# Altium schematic symbol library DART-SD410.SchLib: 2 symbols
Pins are listed as number, name and electrical type; pins without a type are passive.

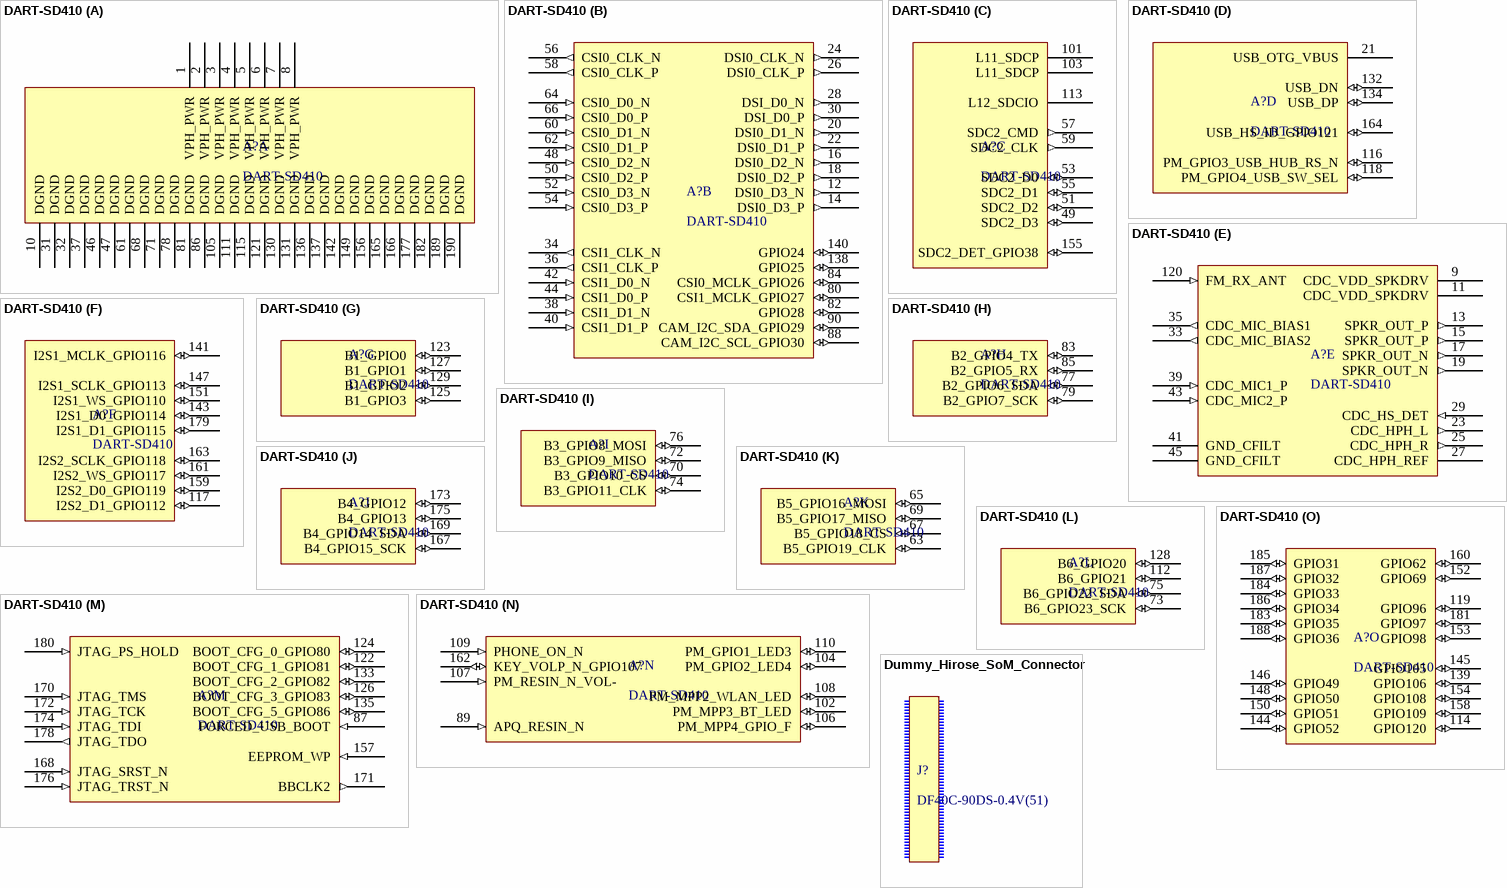
[diagram p0: symbols DART-SD410 to Dummy_Hirose_SoM_Connector]

## DART-SD410
designator A?
Variscite DART-SD410 System on Module
footprint DART-SD410 (Variscite DART-SD410 SoM)
part A pins: 1 VPH_PWR (power), 2 VPH_PWR (power), 3 VPH_PWR (power), 4 VPH_PWR (power), 5 VPH_PWR (power), 6 VPH_PWR (power), 7 VPH_PWR (power), 8 VPH_PWR (power), 10 DGND (power), 31 DGND (power), 32 DGND (power), 37 DGND (power), 46 DGND (power), 47 DGND (power), 61 DGND (power), 68 DGND (power), 71 DGND (power), 78 DGND (power), 81 DGND (power), 86 DGND (power), 105 DGND (power), 111 DGND (power), 115 DGND (power), 121 DGND (power), 130 DGND (power), 131 DGND (power), 136 DGND (power), 137 DGND (power), 142 DGND (power), 149 DGND (power), 156 DGND (power), 165 DGND (power), 166 DGND (power), 177 DGND (power), 182 DGND (power), 189 DGND (power), 190 DGND (power)
part B pins: 12 DSI0_D3_N (out), 14 DSI0_D3_P (out), 16 DSI0_D2_N (out), 18 DSI0_D2_P (out), 20 DSI0_D1_N (out), 22 DSI0_D1_P (out), 24 DSI0_CLK_N (out), 26 DSI0_CLK_P (out), 28 DSI_D0_N (out), 30 DSI_D0_P (out), 34 CSI1_CLK_N (out), 36 CSI1_CLK_P (out), 38 CSI1_D1_N (in), 40 CSI1_D1_P (in), 42 CSI1_D0_N (in), 44 CSI1_D0_P (in), 48 CSI0_D2_N (in), 50 CSI0_D2_P (in), 52 CSI0_D3_N (in), 54 CSI0_D3_P (in), 56 CSI0_CLK_N (out), 58 CSI0_CLK_P (out), 60 CSI0_D1_N (in), 62 CSI0_D1_P (in), 64 CSI0_D0_N (in), 66 CSI0_D0_P (in), 80 CSI1_MCLK_GPIO27 (io), 82 GPIO28 (io), 84 CSI0_MCLK_GPIO26 (io), 88 CAM_I2C_SCL_GPIO30 (io), 90 CAM_I2C_SDA_GPIO29 (io), 138 GPIO25 (io), 140 GPIO24 (io)
part C pins: 49 SDC2_D3 (io), 51 SDC2_D2 (io), 53 SDC2_D0 (io), 55 SDC2_D1 (io), 57 SDC2_CMD (out), 59 SDC2_CLK (out), 101 L11_SDCP (power), 103 L11_SDCP (power), 113 L12_SDCIO (power), 155 SDC2_DET_GPIO38 (io)
part D pins: 21 USB_OTG_VBUS (power), 116 PM_GPIO3_USB_HUB_RS_N (io), 118 PM_GPIO4_USB_SW_SEL (io), 132 USB_DN (io), 134 USB_DP (io), 164 USB_HS_ID_GPIO121 (io)
part E pins: 9 CDC_VDD_SPKDRV (power), 11 CDC_VDD_SPKDRV (power), 13 SPKR_OUT_P (out), 15 SPKR_OUT_P (out), 17 SPKR_OUT_N (out), 19 SPKR_OUT_N (out), 23 CDC_HPH_L (out), 25 CDC_HPH_R (out), 27 CDC_HPH_REF (power), 29 CDC_HS_DET (in), 33 CDC_MIC_BIAS2 (out), 35 CDC_MIC_BIAS1 (out), 39 CDC_MIC1_P (in), 41 GND_CFILT (power), 43 CDC_MIC2_P (in), 45 GND_CFILT (power), 120 FM_RX_ANT (in)
part F pins: 117 I2S2_D1_GPIO112 (io), 141 I2S1_MCLK_GPIO116 (io), 143 I2S1_D0_GPIO114 (io), 147 I2S1_SCLK_GPIO113 (io), 151 I2S1_WS_GPIO110 (io), 159 I2S2_D0_GPIO119 (io), 161 I2S2_WS_GPIO117 (io), 163 I2S2_SCLK_GPIO118 (io), 179 I2S1_D1_GPIO115 (io)
part G pins: 123 B1_GPIO0 (io), 125 B1_GPIO3 (io), 127 B1_GPIO1 (io), 129 B1_GPIO2 (io)
part H pins: 77 B2_GPIO6_SDA (io), 79 B2_GPIO7_SCK (io), 83 B2_GPIO4_TX (io), 85 B2_GPIO5_RX (io)
part I pins: 70 B3_GPIO10_CS (io), 72 B3_GPIO9_MISO (io), 74 B3_GPIO11_CLK (io), 76 B3_GPIO8_MOSI (io)
part J pins: 167 B4_GPIO15_SCK (io), 169 B4_GPIO14_SDA (io), 173 B4_GPIO12 (io), 175 B4_GPIO13 (io)
part K pins: 63 B5_GPIO19_CLK (io), 65 B5_GPIO16_MOSI (io), 67 B5_GPIO18_CS (io), 69 B5_GPIO17_MISO (io)
part L pins: 73 B6_GPIO23_SCK (io), 75 B6_GPIO22_SDA (io), 112 B6_GPIO21 (io), 128 B6_GPIO20 (io)
part M pins: 87 FORCED_USB_BOOT (in), 122 BOOT_CFG_1_GPIO81 (io), 124 BOOT_CFG_0_GPIO80 (io), 126 BOOT_CFG_3_GPIO83 (io), 133 BOOT_CFG_2_GPIO82 (io), 135 BOOT_CFG_5_GPIO86 (io), 157 EEPROM_WP (in), 168 JTAG_SRST_N (in), 170 JTAG_TMS (in), 171 BBCLK2 (out), 172 JTAG_TCK (in), 174 JTAG_TDI (in), 176 JTAG_TRST_N (in), 178 JTAG_TDO (out), 180 JTAG_PS_HOLD (in)
part N pins: 89 APQ_RESIN_N (in), 102 PM_MPP3_BT_LED (io), 104 PM_GPIO2_LED4 (io), 106 PM_MPP4_GPIO_F (io), 107 PM_RESIN_N_VOL- (in), 108 PM_MPP2_WLAN_LED (io), 109 PHONE_ON_N (in), 110 PM_GPIO1_LED3 (io), 162 KEY_VOLP_N_GPIO107 (io)
part O pins: 114 GPIO120 (io), 119 GPIO96 (io), 139 GPIO106 (io), 144 GPIO52 (io), 145 GPIO105 (io), 146 GPIO49 (io), 148 GPIO50 (io), 150 GPIO51 (io), 152 GPIO69 (io), 153 GPIO98 (io), 154 GPIO108 (io), 158 GPIO109 (io), 160 GPIO62 (io), 181 GPIO97 (io), 183 GPIO35 (io), 184 GPIO33 (io), 185 GPIO31 (io), 186 GPIO34 (io), 187 GPIO32 (io), 188 GPIO36 (io)

## Dummy_Hirose_SoM_Connector
designator J?, comment DF40C-90DS-0.4V(51)
Hirose DF40C-90DS-0.4V(51) Board-to-Board Connector
footprint Hirose_DF40C-90DS-0.4V(51) (Hirose DF40C-90DS-0.4V(51) Board-to-Board Connector)